# Altium schematic symbol library BLM18AG601SN1.SchLib: 1 symbol
Pins are listed as number, name and electrical type; pins without a type are passive.

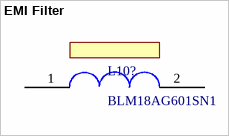
[diagram p0: symbol EMI Filter]

## EMI Filter
designator L10?, comment BLM18AG601SN1
Manufacturer Part Number: BLM18AG601SN1D; Manufacturer: Murata Electronics; Mouser Part Number: 81-BLM11A601S; MouserURL: https://www.mouser.com/ProductDetail/Murata-Electronics/BLM18AG601SN1D?qs=sGAEpiMZZMtdyQheitOmRV9%252B5BLdsWKJfntqGQ3IlAM%3D
footprint *CAPC0603X56N
pins: 1, 2